# Altium schematic symbol library MOSFETs.SchLib: 1 symbol
Pins are listed as number, name and electrical type; pins without a type are passive.

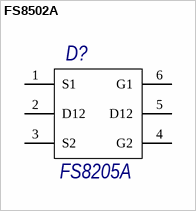
[diagram p0: symbol FS8502A]

## FS8502A
designator D?, comment FS8205A
footprint SOT95P245X145-6N (SOT23, 5-Leads, Body 2,90x2,45mm, Pitch 0,95mm, IPC Medium Density)
pins: 1 S1, 2 D12, 3 S2, 4 G2, 5 D12, 6 G1